# EAGLE library part SI4032 (library rs41)
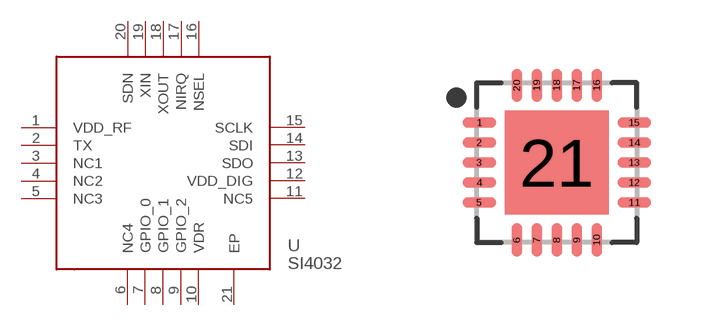
[diagram p4: symbol with the pads of QFN20_0.5MM; footprint QFN20_0.5MM]

Designator prefix U

## SI4032QFN204X4  [QFN20_0.5MM]
1  VDD_RF
2  TX
3  NC1
4  NC2
5  NC3
6  NC4
7  GPIO_0
8  GPIO_1
9  GPIO_2
10  VDR
11  NC5
12  VDD_DIG
13  SDO
14  SDI
15  SCLK
16  NSEL
17  NIRQ
18  XOUT
19  XIN
20  SDN
21  EP

## Footprint QFN20_0.5MM (pad centres in mm)
20-QFN, 0.50 mm pitch, 4.00 X 4.00 X 0.90 mm body, 2.60 X 2.60 mm thermal pad 20-pin QFN package with 0.50 mm pitch with body size 4.00 X 4.00 X 0.90 mm and thermal pad size 2.60 X 2.60 mm
smd 0.837 x 0.264: 1 -1.937,1; 2 -1.937,0.5; 3 -1.937,0; 4 -1.937,-0.5; 5 -1.937,-1; 11 1.937,-1; 12 1.937,-0.5; 13 1.937,0; 14 1.937,0.5; 15 1.937,1
smd 0.264 x 0.837: 6 -1,-1.937; 7 -0.5,-1.937; 8 0,-1.937; 9 0.5,-1.937; 10 1,-1.937; 16 1,1.937; 17 0.5,1.937; 18 0,1.937; 19 -0.5,1.937; 20 -1,1.937
smd 2.6 x 2.6: 21 0,0